# Altium schematic symbol library SCH - POWER - LINEAR VREG - TI TL1963A_KTT_5.SchLib: 1 symbol
Pins are listed as number, name and electrical type; pins without a type are passive.

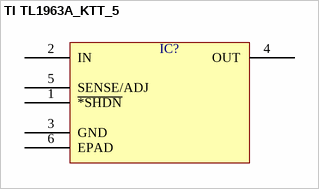
[diagram p0: symbol TI TL1963A_KTT_5]

## TI TL1963A_KTT_5
designator IC?  (value not drawn)
pins: 1 ~{*SHDN}, 2 IN, 3 GND, 4 OUT, 5 SENSE/ADJ, 6 EPAD